# EAGLE library part 6570XX230201_657008230201 (library Wurth_Connectors_WR-MPC5)
WR-MPC5 5.70 mm Male Header Dual Row Vertical Kind Properties Pitch 5.7 mm Rows Dual Type Vertical Operating Temperature -40 up to +105 °C Durability 25 Mating cycles Material Properties Insulator Material LCP Insulator Flammability Rating UL94 V-0 Insulator Color Black Pin Material Copper Alloy Pin Plating Tin over Nickel Packaging Properties Packaging Tray Electric Properties IR 26 A Working Voltage 600 V (AC) Withstanding Voltage 2200 V (AC) Contact Resistance 2 mΩ Certification REACh Approval Conform or declared [(EC)1907/2006] RoHS Approval Compliant [2011/65/EU&2015/863] UL Approval E323964 <https://www.we-online.com/components/media/o731514v209%20WR-MPC5_6570xx230201_Multi-parts.jpg> Details see: www.we-online.com/components/products/WR_MPC5_5_70_MM_MALE_HEADER_DUAL_ROW_VERTICAL <www.we-online.com/catalog/WR_MPC5_5_70_MM_MALE_HEADER_DUAL_ROW_VERTICAL/?utm_source=eagle_model&utm_medium=description_link&utm_campaign=eisos_eagle> Updated by Ella 2023-10-09 2023 (C) Würth Elektronik
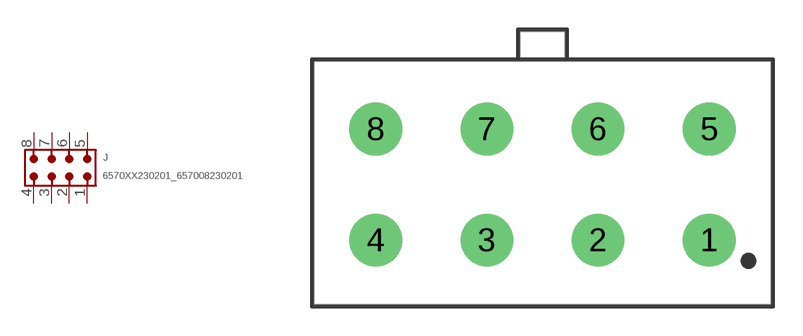
[diagram p10: symbol with the pads of 657008230201; footprint 657008230201]

Designator prefix J

## 6570XX230201_657008230201 (CONTACT-RESISTANCE: 2mOhm; DATASHEET-URL: https://www.we-online.com/redexpert/spec/657008230201?ae; GENDER: Male; IR: 26A; MOUNT: THT; PART-NUMBER: 657008230201; PITCH: 5.7mm; POLARITY: 8; ROWS: Dual; TYPE: Vertical; VALUE: 657008230201; WORKING-VOLTAGE: 600V (AC))  [657008230201]
1  1  pas
2  2  pas
3  3  pas
4  4  pas
5  5  pas
6  6  pas
7  7  pas
8  8  pas

## Footprint 657008230201 (pad centres in mm)
WR-MPC5 THT Dual Row Male Header Vertical THT, 8pins
drill 1.8: 1 8.55,-2.85; 2 2.85,-2.85; 3 -2.85,-2.85; 4 -8.55,-2.85; 5 8.55,2.85; 6 2.85,2.85; 7 -2.85,2.85; 8 -8.55,2.85